# Altium schematic symbol library TerreneitorLib.SchLib: 7 symbols
Pins are listed as number, name and electrical type; pins without a type are passive.

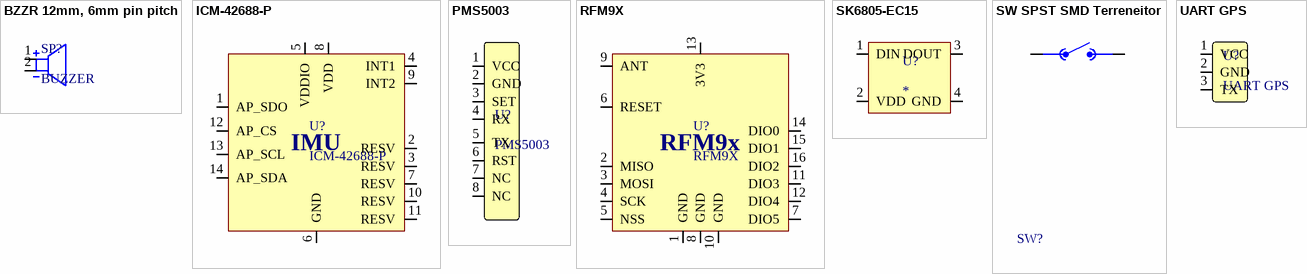
[diagram p0: symbols BZZR 12mm, 6mm pin pitch to UART GPS]

## BZZR 12mm, 6mm pin pitch
designator SP?, comment BUZZER
12mm Active Buzzer
footprint BUZZER 12MM DIAM. 6MM PIN PITCH
pins: 1, 2

## ICM-42688-P
designator U?
6-axis MEMS IMU (Accelerometer & Gyroscope)
footprint LGA14 (2.5mm x 3mm)
pins: 1 AP_SDO, 2 RESV, 3 RESV, 4 INT1, 5 VDDIO, 6 GND, 7 RESV, 8 VDD, 9 INT2, 10 RESV, 11 RESV, 12 AP_CS, 13 AP_SCL, 14 AP_SDA
text: IMU

## PMS5003
designator U?
PMS5003 Header Breakout
footprint PMS5003 HEADER
pins: 1 VCC, 2 GND, 3 SET, 4 RX, 5 TX, 6 RST, 7 NC, 8 NC

## RFM9X
designator U?
RFM9X LoRa Transciever (16mmx16mm)
footprint RFM9X
pins: 1 GND, 2 MISO, 3 MOSI, 4 SCK, 5 NSS, 6 RESET, 7 DIO5, 8 GND, 9 ANT, 10 GND, 11 DIO3, 12 DIO4, 13 3V3, 14 DIO0, 15 DIO1, 16 DIO2
text: RFM9x

## SK6805-EC15
designator U?
footprint SK6805-EC15
pins: 1 DIN, 2 VDD, 3 DOUT, 4 GND

## SW SPST SMD Terreneitor
designator SW?, comment SPST Tactile Switch  (value not drawn)
SPST SW TS-1187A-B-A-B
footprint SW SPST SMD Terreneitor (SPST SW TS-1187A-B-A-B)
pins: 1, 2

## UART GPS
designator U?
UART GPS (3 pin breakout)
footprint GPS UART HEADER
pins: 1 VCC, 2 GND, 3 TX